# EAGLE library part TB6612FNG_BREAKOUT (library HyTechDevices)
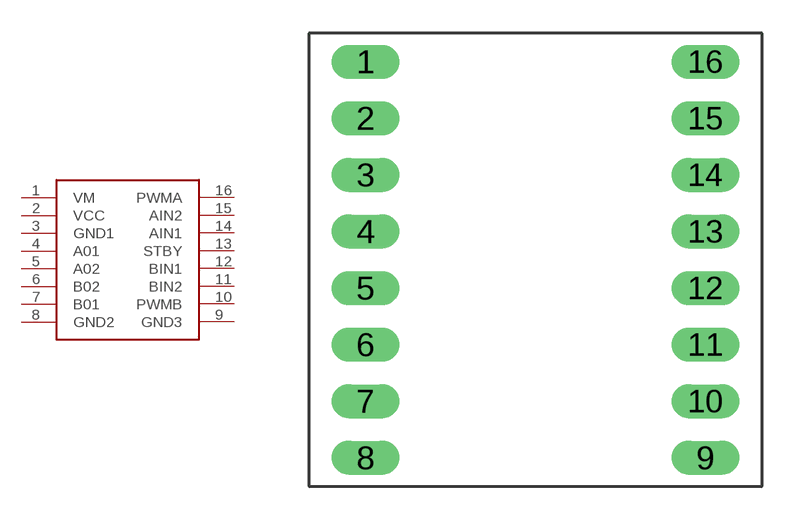
[diagram p91: symbol with the pads of TB6612FNG_BREAKOUT; footprint TB6612FNG_BREAKOUT]

Designator prefix -

## TB6612FNG_BREAKOUT  [TB6612FNG_BREAKOUT]
1  VM
2  VCC
3  GND1
4  A01
5  A02
6  B02
7  B01
8  GND2
9  GND3
10  PWMB
11  BIN2
12  BIN1
13  STBY
14  AIN1
15  AIN2
16  PWMA

## Footprint TB6612FNG_BREAKOUT (pad centres in mm)
drill 1.016 long: 1 -7.62,8.89; 2 -7.62,6.35; 3 -7.62,3.81; 4 -7.62,1.27; 5 -7.62,-1.27; 6 -7.62,-3.81; 7 -7.62,-6.35; 8 -7.62,-8.89; 9 7.62,-8.89; 10 7.62,-6.35; 11 7.62,-3.81; 12 7.62,-1.27; 13 7.62,1.27; 14 7.62,3.81; 15 7.62,6.35; 16 7.62,8.89